# Altium integrated library TI Amplifiers and Linear Special Function Amplifier.IntLib: 708 symbols (part 31 of 47)
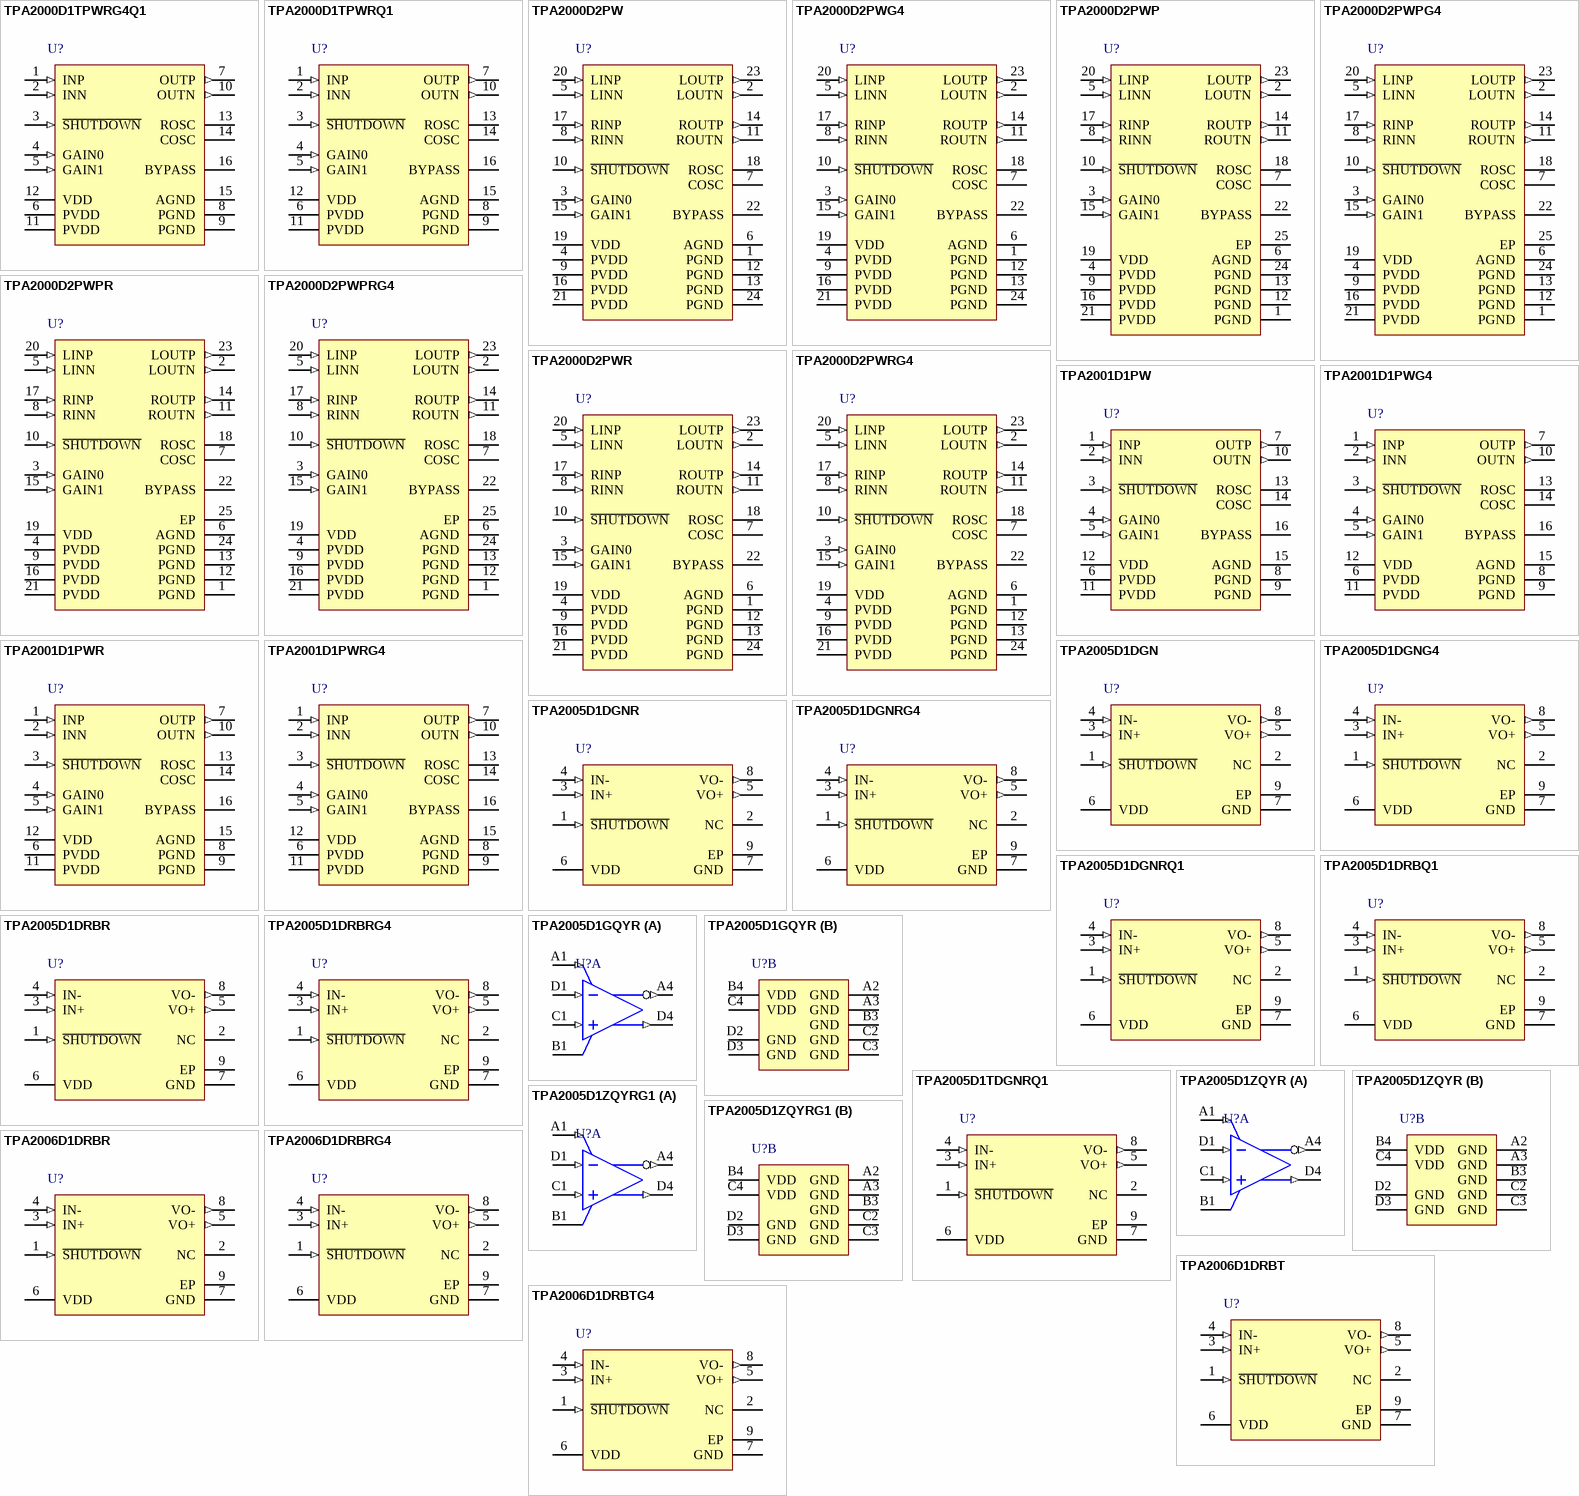
[diagram p69: symbols TPA2000D1TPWRG4Q1 to TPA2006D1DRBTG4]

## TPA2000D2PWR
designator U?
2-W Stereo Class-D Audio Amplifier, -40 to 85 degC, 24-pin SOP (PW24), Green (RoHS & no Sb/Br); Manufacturer: Texas Instruments; PartNumber: TPA2000D2PWR; Output Power(W): 2; PSRR(dB): 77; SubFamily: Dynamic Speaker; Supply Max(Max)(Volt): 5.5; Supply Min(Min)(Volt): 4.5; DatasheetVersion: SLOS291F; PackageVersion: 4040064-6/G, 02/2011; PackageReference: PW24; PackageDescription: 24-Pin Plastic Small Outline, Body 7.8 x 4.4 mm, Pitch 0.65 mm; Supplier 1: Digi-Key; Supplier Part Number 1: 296-13382-2-ND; Supplier 2: Digi-Key; Supplier Part Number 2: 296-13382-1-ND; Supplier 3: Digi-Key; Supplier Part Number 3: 296-13382-6-ND; Supplier 4: Mouser; Supplier Part Number 4: 595-TPA2000D2PWR; Eco-Plan: Green (RoHS & no Sb/Br); Speaker Amp Type: Class-D; Speaker Channels: Stereo; Mounting Technology: Surface Mount; Code_JEDEC: MO-153; ComponentLink1Description: Manufacturer URL; ComponentLink1URL: http://www.ti.com/; ComponentLink2Description: Datasheet; ComponentLink2URL: http://www.ti.com/general/docs/lit/getliterature.tsp?genericPartNumber=TPA2000D2&fileType=pdf; ComponentLink3Description: Package Specification; ComponentLink3URL: http://www.ti.com/litv/pdf/mpds363
footprint TI-PW24_N (SOP, 24-Leads, Body 7.8x4.4mm, Pitch 0.65mm, IPC Medium Density)
footprint TI-PW24_L (SOP, 24-Leads, Body 7.8x4.4mm, Pitch 0.65mm, IPC High Density)
footprint TI-PW24_M (SOP, 24-Leads, Body 7.8x4.4mm, Pitch 0.65mm, IPC Low Density)
pins: 1 PGND (power) "Power ground for left channel H-bridge", 2 LOUTN (out) "Left channel negative audio output", 3 GAIN0 (in) "Bit 0 of gain control (TTL logic level)", 4 PVDD (power) "Power supply for left channel H-bridge", 5 LINN (in) "Left channel negative differential audio input", 6 AGND (power) "Analog ground", 7 COSC "A capacitor connected to this terminal sets the oscillation frequency in conjunction with ROSC. For proper operation, connect a 220 pF capacitor from COSC to ground.", 8 RINN (in) "Right channel negative differential audio input", 9 PVDD (power) "Power supply for right channel H-bridge", 10 ~{SHUTDOWN} (in) "Places the amplifier in shutdown mode if a TTL logic low is placed on this terminal; normal operation if a TTL logic high is placed on this terminal.", 11 ROUTN (out) "Right channel negative audio output", 12 PGND (power) "Power ground for right channel H-bridge", 13 PGND (power) "Power ground for right channel H-bridge", 14 ROUTP (out) "Right channel positive output", 15 GAIN1 (in) "Bit 1 of gain control (TTL logic level)", 16 PVDD (power) "Power supply for right channel H-bridge", 17 RINP (in) "Right channel positive differential audio input", 18 ROSC "A resistor connected to this terminal sets the oscillation frequency in conjunction with COSC. For proper operation, connect a 120 k ohm resistor from ROSC to ground.", 19 VDD (power) "Analog power supply", 20 LINP (in) "Left channel positive differential audio input", 21 PVDD (power) "Power supply for left channel H-bridge", 22 BYPASS "Tap to voltage divider for internal midsupply bias generator used for analog reference.", 23 LOUTP (out) "Left channel positive audio output", 24 PGND (power) "Power ground for left channel H-bridge"

## TPA2000D2PWRG4
designator U?
2-W Stereo Class-D Audio Amplifier, -40 to 85 degC, 24-pin SOP (PW24), Green (RoHS & no Sb/Br); Manufacturer: Texas Instruments; PartNumber: TPA2000D2PWRG4; Output Power(W): 2; PSRR(dB): 77; SubFamily: Dynamic Speaker; Supply Max(Max)(Volt): 5.5; Supply Min(Min)(Volt): 4.5; DatasheetVersion: SLOS291F; PackageVersion: 4040064-6/G, 02/2011; PackageReference: PW24; PackageDescription: 24-Pin Plastic Small Outline, Body 7.8 x 4.4 mm, Pitch 0.65 mm; Supplier 1: Digi-Key; Supplier Part Number 1: TPA2000D2PWRG4-ND; Supplier 2: Mouser; Supplier Part Number 2: 595-TPA2000D2PWRG4; Eco-Plan: Green (RoHS & no Sb/Br); Speaker Amp Type: Class-D; Speaker Channels: Stereo; Mounting Technology: Surface Mount; Code_JEDEC: MO-153; ComponentLink1Description: Manufacturer URL; ComponentLink1URL: http://www.ti.com/; ComponentLink2Description: Datasheet; ComponentLink2URL: http://www.ti.com/general/docs/lit/getliterature.tsp?genericPartNumber=TPA2000D2&fileType=pdf; ComponentLink3Description: Package Specification; ComponentLink3URL: http://www.ti.com/litv/pdf/mpds363
footprint TI-PW24_N (SOP, 24-Leads, Body 7.8x4.4mm, Pitch 0.65mm, IPC Medium Density)
footprint TI-PW24_L (SOP, 24-Leads, Body 7.8x4.4mm, Pitch 0.65mm, IPC High Density)
footprint TI-PW24_M (SOP, 24-Leads, Body 7.8x4.4mm, Pitch 0.65mm, IPC Low Density)
pins: 1 PGND (power) "Power ground for left channel H-bridge", 2 LOUTN (out) "Left channel negative audio output", 3 GAIN0 (in) "Bit 0 of gain control (TTL logic level)", 4 PVDD (power) "Power supply for left channel H-bridge", 5 LINN (in) "Left channel negative differential audio input", 6 AGND (power) "Analog ground", 7 COSC "A capacitor connected to this terminal sets the oscillation frequency in conjunction with ROSC. For proper operation, connect a 220 pF capacitor from COSC to ground.", 8 RINN (in) "Right channel negative differential audio input", 9 PVDD (power) "Power supply for right channel H-bridge", 10 ~{SHUTDOWN} (in) "Places the amplifier in shutdown mode if a TTL logic low is placed on this terminal; normal operation if a TTL logic high is placed on this terminal.", 11 ROUTN (out) "Right channel negative audio output", 12 PGND (power) "Power ground for right channel H-bridge", 13 PGND (power) "Power ground for right channel H-bridge", 14 ROUTP (out) "Right channel positive output", 15 GAIN1 (in) "Bit 1 of gain control (TTL logic level)", 16 PVDD (power) "Power supply for right channel H-bridge", 17 RINP (in) "Right channel positive differential audio input", 18 ROSC "A resistor connected to this terminal sets the oscillation frequency in conjunction with COSC. For proper operation, connect a 120 k ohm resistor from ROSC to ground.", 19 VDD (power) "Analog power supply", 20 LINP (in) "Left channel positive differential audio input", 21 PVDD (power) "Power supply for left channel H-bridge", 22 BYPASS "Tap to voltage divider for internal midsupply bias generator used for analog reference.", 23 LOUTP (out) "Left channel positive audio output", 24 PGND (power) "Power ground for left channel H-bridge"

## TPA2001D1PW
designator U?
1-W Mono Class-D Audio Amplifier, -40 to 85 degC, 16-pin SOP (PW16), Green (RoHS & no Sb/Br); Manufacturer: Texas Instruments; PartNumber: TPA2001D1PW; Output Power(W): 1; PSRR(dB): 77; SubFamily: Dynamic Speaker; Supply Max(Max)(Volt): 5.5; Supply Min(Min)(Volt): 2.7; DatasheetVersion: SLOS338D; PackageVersion: 4040064-4/G, 02/2011; PackageReference: PW16; PackageDescription: 16-Pin Plastic Small Outline, Body 5 x 4.4 mm, Pitch 0.65 mm; Supplier 1: Digi-Key; Supplier Part Number 1: 296-7010-5-ND; Supplier 2: Newark; Supplier Part Number 2: 76C9788; Supplier 3: Mouser; Supplier Part Number 3: 595-TPA2001D1PW; Eco-Plan: Green (RoHS & no Sb/Br); Speaker Amp Type: Class-D; Speaker Channels: Mono; Mounting Technology: Surface Mount; Code_JEDEC: MO-153; ComponentLink1Description: Manufacturer URL; ComponentLink1URL: http://www.ti.com/; ComponentLink2Description: Datasheet; ComponentLink2URL: http://www.ti.com/general/docs/lit/getliterature.tsp?genericPartNumber=TPA2001D1&fileType=pdf; ComponentLink3Description: Package Specification; ComponentLink3URL: http://www.ti.com/lit/ml/mpds361/mpds361.pdf
footprint TI-PW16_N (SOP, 16-Leads, Body 5.1x4.5mm, Pitch 0.65mm, IPC Medium Density)
footprint TI-PW16_L (SOP, 16-Leads, Body 5.1x4.5mm, Pitch 0.65mm, IPC High Density)
footprint TI-PW16_M (SOP, 16-Leads, Body 5.1x4.5mm, Pitch 0.65mm, IPC Low Density)
pins: 1 INP (in) "Positive differential input", 2 INN (in) "Negative differential input", 3 ~{SHUTDOWN} (in) "Places the amplifier in shutdown mode if a TTL logic low is placed on this terminal, and normal operation if a TTL logic high is placed on this terminal.", 4 GAIN0 (in) "Bit 0 of gain control (TTL logic level)", 5 GAIN1 (in) "Bit 1 of gain control (TTL logic level)", 6 PVDD (power) "High-current power supplies", 7 OUTP (out) "Positive BTL output", 8 PGND (power) "High-current grounds", 9 PGND (power) "High-current grounds", 10 OUTN (out) "Negative BTL output", 11 PVDD (power) "High-current power supplies", 12 VDD (power) "Analog power supply", 13 ROSC "Connect resistor to ground to set oscillation frequency.", 14 COSC "Connect capacitor to ground to set oscillation frequency.", 15 AGND (power) "Analog ground", 16 BYPASS "Connect capacitor to ground for BYPASS voltage filtering."

## TPA2001D1PWG4
designator U?
1-W Mono Class-D Audio Amplifier, -40 to 85 degC, 16-pin SOP (PW16), Green (RoHS & no Sb/Br); Manufacturer: Texas Instruments; PartNumber: TPA2001D1PWG4; Output Power(W): 1; PSRR(dB): 77; SubFamily: Dynamic Speaker; Supply Max(Max)(Volt): 5.5; Supply Min(Min)(Volt): 2.7; DatasheetVersion: SLOS338D; PackageVersion: 4040064-4/G, 02/2011; PackageReference: PW16; PackageDescription: 16-Pin Plastic Small Outline, Body 5 x 4.4 mm, Pitch 0.65 mm; Supplier 1: Digi-Key; Supplier Part Number 1: TPA2001D1PWG4-ND; Supplier 2: Mouser; Supplier Part Number 2: 595-TPA2001D1PWG4; Eco-Plan: Green (RoHS & no Sb/Br); Speaker Amp Type: Class-D; Speaker Channels: Mono; Mounting Technology: Surface Mount; Code_JEDEC: MO-153; ComponentLink1Description: Manufacturer URL; ComponentLink1URL: http://www.ti.com/; ComponentLink2Description: Datasheet; ComponentLink2URL: http://www.ti.com/general/docs/lit/getliterature.tsp?genericPartNumber=TPA2001D1&fileType=pdf; ComponentLink3Description: Package Specification; ComponentLink3URL: http://www.ti.com/lit/ml/mpds361/mpds361.pdf
footprint TI-PW16_N (SOP, 16-Leads, Body 5.1x4.5mm, Pitch 0.65mm, IPC Medium Density)
footprint TI-PW16_L (SOP, 16-Leads, Body 5.1x4.5mm, Pitch 0.65mm, IPC High Density)
footprint TI-PW16_M (SOP, 16-Leads, Body 5.1x4.5mm, Pitch 0.65mm, IPC Low Density)
pins: 1 INP (in) "Positive differential input", 2 INN (in) "Negative differential input", 3 ~{SHUTDOWN} (in) "Places the amplifier in shutdown mode if a TTL logic low is placed on this terminal, and normal operation if a TTL logic high is placed on this terminal.", 4 GAIN0 (in) "Bit 0 of gain control (TTL logic level)", 5 GAIN1 (in) "Bit 1 of gain control (TTL logic level)", 6 PVDD (power) "High-current power supplies", 7 OUTP (out) "Positive BTL output", 8 PGND (power) "High-current grounds", 9 PGND (power) "High-current grounds", 10 OUTN (out) "Negative BTL output", 11 PVDD (power) "High-current power supplies", 12 VDD (power) "Analog power supply", 13 ROSC "Connect resistor to ground to set oscillation frequency.", 14 COSC "Connect capacitor to ground to set oscillation frequency.", 15 AGND (power) "Analog ground", 16 BYPASS "Connect capacitor to ground for BYPASS voltage filtering."

## TPA2001D1PWR
designator U?
1-W Mono Class-D Audio Amplifier, -40 to 85 degC, 16-pin SOP (PW16), Green (RoHS & no Sb/Br); Manufacturer: Texas Instruments; PartNumber: TPA2001D1PWR; Output Power(W): 1; PSRR(dB): 77; SubFamily: Dynamic Speaker; Supply Max(Max)(Volt): 5.5; Supply Min(Min)(Volt): 2.7; DatasheetVersion: SLOS338D; PackageVersion: 4040064-4/G, 02/2011; PackageReference: PW16; PackageDescription: 16-Pin Plastic Small Outline, Body 5 x 4.4 mm, Pitch 0.65 mm; Supplier 1: Digi-Key; Supplier Part Number 1: TPA2001D1PWR-ND; Supplier 2: Mouser; Supplier Part Number 2: 595-TPA2001D1PWR; Eco-Plan: Green (RoHS & no Sb/Br); Speaker Amp Type: Class-D; Speaker Channels: Mono; Mounting Technology: Surface Mount; Code_JEDEC: MO-153; ComponentLink1Description: Manufacturer URL; ComponentLink1URL: http://www.ti.com/; ComponentLink2Description: Datasheet; ComponentLink2URL: http://www.ti.com/general/docs/lit/getliterature.tsp?genericPartNumber=TPA2001D1&fileType=pdf; ComponentLink3Description: Package Specification; ComponentLink3URL: http://www.ti.com/lit/ml/mpds361/mpds361.pdf
footprint TI-PW16_N (SOP, 16-Leads, Body 5.1x4.5mm, Pitch 0.65mm, IPC Medium Density)
footprint TI-PW16_L (SOP, 16-Leads, Body 5.1x4.5mm, Pitch 0.65mm, IPC High Density)
footprint TI-PW16_M (SOP, 16-Leads, Body 5.1x4.5mm, Pitch 0.65mm, IPC Low Density)
pins: 1 INP (in) "Positive differential input", 2 INN (in) "Negative differential input", 3 ~{SHUTDOWN} (in) "Places the amplifier in shutdown mode if a TTL logic low is placed on this terminal, and normal operation if a TTL logic high is placed on this terminal.", 4 GAIN0 (in) "Bit 0 of gain control (TTL logic level)", 5 GAIN1 (in) "Bit 1 of gain control (TTL logic level)", 6 PVDD (power) "High-current power supplies", 7 OUTP (out) "Positive BTL output", 8 PGND (power) "High-current grounds", 9 PGND (power) "High-current grounds", 10 OUTN (out) "Negative BTL output", 11 PVDD (power) "High-current power supplies", 12 VDD (power) "Analog power supply", 13 ROSC "Connect resistor to ground to set oscillation frequency.", 14 COSC "Connect capacitor to ground to set oscillation frequency.", 15 AGND (power) "Analog ground", 16 BYPASS "Connect capacitor to ground for BYPASS voltage filtering."

## TPA2001D1PWRG4
designator U?
1-W Mono Class-D Audio Amplifier, -40 to 85 degC, 16-pin SOP (PW16), Green (RoHS & no Sb/Br); Manufacturer: Texas Instruments; PartNumber: TPA2001D1PWRG4; Output Power(W): 1; PSRR(dB): 77; SubFamily: Dynamic Speaker; Supply Max(Max)(Volt): 5.5; Supply Min(Min)(Volt): 2.7; DatasheetVersion: SLOS338D; PackageVersion: 4040064-4/G, 02/2011; PackageReference: PW16; PackageDescription: 16-Pin Plastic Small Outline, Body 5 x 4.4 mm, Pitch 0.65 mm; Supplier 1: Digi-Key; Supplier Part Number 1: TPA2001D1PWRG4-ND; Supplier 2: Mouser; Supplier Part Number 2: 595-TPA2001D1PWRG4; Eco-Plan: Green (RoHS & no Sb/Br); Speaker Amp Type: Class-D; Speaker Channels: Mono; Mounting Technology: Surface Mount; Code_JEDEC: MO-153; ComponentLink1Description: Manufacturer URL; ComponentLink1URL: http://www.ti.com/; ComponentLink2Description: Datasheet; ComponentLink2URL: http://www.ti.com/general/docs/lit/getliterature.tsp?genericPartNumber=TPA2001D1&fileType=pdf; ComponentLink3Description: Package Specification; ComponentLink3URL: http://www.ti.com/lit/ml/mpds361/mpds361.pdf
footprint TI-PW16_N (SOP, 16-Leads, Body 5.1x4.5mm, Pitch 0.65mm, IPC Medium Density)
footprint TI-PW16_L (SOP, 16-Leads, Body 5.1x4.5mm, Pitch 0.65mm, IPC High Density)
footprint TI-PW16_M (SOP, 16-Leads, Body 5.1x4.5mm, Pitch 0.65mm, IPC Low Density)
pins: 1 INP (in) "Positive differential input", 2 INN (in) "Negative differential input", 3 ~{SHUTDOWN} (in) "Places the amplifier in shutdown mode if a TTL logic low is placed on this terminal, and normal operation if a TTL logic high is placed on this terminal.", 4 GAIN0 (in) "Bit 0 of gain control (TTL logic level)", 5 GAIN1 (in) "Bit 1 of gain control (TTL logic level)", 6 PVDD (power) "High-current power supplies", 7 OUTP (out) "Positive BTL output", 8 PGND (power) "High-current grounds", 9 PGND (power) "High-current grounds", 10 OUTN (out) "Negative BTL output", 11 PVDD (power) "High-current power supplies", 12 VDD (power) "Analog power supply", 13 ROSC "Connect resistor to ground to set oscillation frequency.", 14 COSC "Connect capacitor to ground to set oscillation frequency.", 15 AGND (power) "Analog ground", 16 BYPASS "Connect capacitor to ground for BYPASS voltage filtering."

## TPA2005D1DGN
designator U?
1.4-W Mono Class-D Audio Amplifier, -40 to 85 degC, 8-pin SOP (DGN8), Green (RoHS & no Sb/Br); Manufacturer: Texas Instruments; PartNumber: TPA2005D1DGN; Output Power(W): 1.18; PSRR(dB): -75; SubFamily: Dynamic Speaker; Supply Max(Max)(Volt): 5.5; Supply Min(Min)(Volt): 2.5; DatasheetVersion: SLOS369F; PackageVersion: 4073271/F, 05/2011; PackageReference: DGN8-1760X1425TP; PackageDescription: 8-Pin Plastic Small Outline, Body 3 x 3 mm, Pitch 0.65 mm; Supplier 1: Digi-Key; Supplier Part Number 1: 296-17691-5-ND; Supplier 2: Farnell; Supplier Part Number 2: 2075395; Supplier 3: Newark; Supplier Part Number 3: 82T3159; Supplier 4: Newark; Supplier Part Number 4: 73J8370; Supplier 5: Mouser; Supplier Part Number 5: 595-TPA2005D1DGN; Eco-Plan: Green (RoHS & no Sb/Br); Speaker Amp Type: Class-D; Speaker Channels: Mono; Mounting Technology: Surface Mount; Code_JEDEC: MO-187; ComponentLink1Description: Manufacturer URL; ComponentLink1URL: http://www.ti.com/; ComponentLink2Description: Datasheet; ComponentLink2URL: http://www.ti.com/general/docs/lit/getliterature.tsp?genericPartNumber=TPA2005D1&fileType=pdf; ComponentLink3Description: Package Specification; ComponentLink3URL: http://www.ti.com/litv/pdf/mpds046e
footprint TI-DGN8-1760X1425TP_N (SOP, 8-Leads, Body 3.1x3.1mm, Pitch 0.65mm, Thermal Pad 1.89x1.57mm, IPC Medium Density)
footprint TI-DGN8-1760X1425TP_L (SOP, 8-Leads, Body 3.1x3.1mm, Pitch 0.65mm, Thermal Pad 1.89x1.57mm, IPC High Density)
footprint TI-DGN8-1760X1425TP_M (SOP, 8-Leads, Body 3.1x3.1mm, Pitch 0.65mm, Thermal Pad 1.89x1.57mm, IPC Low Density)
pins: 1 ~{SHUTDOWN} (in) "Shutdown terminal (active low logic)", 2 NC "No internal connection", 3 IN+ (in) "Positive differential input", 4 IN- (in) "Negative differential input", 5 VO+ (out) "Positive BTL output", 6 VDD (power) "Power supply", 7 GND (power) "High-current ground", 8 VO- (out) "Negative BTL output", 9 EP (power) "Must be soldered to a grounded pad on the PCB."

## TPA2005D1DGNG4
designator U?
1.4-W Mono Class-D Audio Amplifier, -40 to 85 degC, 8-pin SOP (DGN8), Green (RoHS & no Sb/Br); Manufacturer: Texas Instruments; PartNumber: TPA2005D1DGNG4; Output Power(W): 1.18; PSRR(dB): -75; SubFamily: Dynamic Speaker; Supply Max(Max)(Volt): 5.5; Supply Min(Min)(Volt): 2.5; DatasheetVersion: SLOS369F; PackageVersion: 4073271/F, 05/2011; PackageReference: DGN8-1760X1425TP; PackageDescription: 8-Pin Plastic Small Outline, Body 3 x 3 mm, Pitch 0.65 mm; Supplier 1: Digi-Key; Supplier Part Number 1: TPA2005D1DGNG4-ND; Supplier 2: Mouser; Supplier Part Number 2: 595-TPA2005D1DGNG4; Eco-Plan: Green (RoHS & no Sb/Br); Speaker Amp Type: Class-D; Speaker Channels: Mono; Mounting Technology: Surface Mount; Code_JEDEC: MO-187; ComponentLink1Description: Manufacturer URL; ComponentLink1URL: http://www.ti.com/; ComponentLink2Description: Datasheet; ComponentLink2URL: http://www.ti.com/general/docs/lit/getliterature.tsp?genericPartNumber=TPA2005D1&fileType=pdf; ComponentLink3Description: Package Specification; ComponentLink3URL: http://www.ti.com/litv/pdf/mpds046e
footprint TI-DGN8-1760X1425TP_N (SOP, 8-Leads, Body 3.1x3.1mm, Pitch 0.65mm, Thermal Pad 1.89x1.57mm, IPC Medium Density)
footprint TI-DGN8-1760X1425TP_L (SOP, 8-Leads, Body 3.1x3.1mm, Pitch 0.65mm, Thermal Pad 1.89x1.57mm, IPC High Density)
footprint TI-DGN8-1760X1425TP_M (SOP, 8-Leads, Body 3.1x3.1mm, Pitch 0.65mm, Thermal Pad 1.89x1.57mm, IPC Low Density)
pins: 1 ~{SHUTDOWN} (in) "Shutdown terminal (active low logic)", 2 NC "No internal connection", 3 IN+ (in) "Positive differential input", 4 IN- (in) "Negative differential input", 5 VO+ (out) "Positive BTL output", 6 VDD (power) "Power supply", 7 GND (power) "High-current ground", 8 VO- (out) "Negative BTL output", 9 EP (power) "Must be soldered to a grounded pad on the PCB."

## TPA2005D1DGNR
designator U?
1.4-W Mono Class-D Audio Amplifier, -40 to 85 degC, 8-pin SOP (DGN8), Green (RoHS & no Sb/Br); Manufacturer: Texas Instruments; PartNumber: TPA2005D1DGNR; Output Power(W): 1.18; PSRR(dB): -75; SubFamily: Dynamic Speaker; Supply Max(Max)(Volt): 5.5; Supply Min(Min)(Volt): 2.5; DatasheetVersion: SLOS369F; PackageVersion: 4073271/F, 05/2011; PackageReference: DGN8-1760X1425TP; PackageDescription: 8-Pin Plastic Small Outline, Body 3 x 3 mm, Pitch 0.65 mm; Supplier 1: Digi-Key; Supplier Part Number 1: 296-26876-2-ND; Supplier 2: Digi-Key; Supplier Part Number 2: 296-26876-1-ND; Supplier 3: Digi-Key; Supplier Part Number 3: 296-26876-6-ND; Supplier 4: Newark; Supplier Part Number 4: 73J8371; Supplier 5: Mouser; Supplier Part Number 5: 595-TPA2005D1DGNR; Eco-Plan: Green (RoHS & no Sb/Br); Speaker Amp Type: Class-D; Speaker Channels: Mono; Mounting Technology: Surface Mount; Code_JEDEC: MO-187; ComponentLink1Description: Manufacturer URL; ComponentLink1URL: http://www.ti.com/; ComponentLink2Description: Datasheet; ComponentLink2URL: http://www.ti.com/general/docs/lit/getliterature.tsp?genericPartNumber=TPA2005D1&fileType=pdf; ComponentLink3Description: Package Specification; ComponentLink3URL: http://www.ti.com/litv/pdf/mpds046e
footprint TI-DGN8-1760X1425TP_N (SOP, 8-Leads, Body 3.1x3.1mm, Pitch 0.65mm, Thermal Pad 1.89x1.57mm, IPC Medium Density)
footprint TI-DGN8-1760X1425TP_L (SOP, 8-Leads, Body 3.1x3.1mm, Pitch 0.65mm, Thermal Pad 1.89x1.57mm, IPC High Density)
footprint TI-DGN8-1760X1425TP_M (SOP, 8-Leads, Body 3.1x3.1mm, Pitch 0.65mm, Thermal Pad 1.89x1.57mm, IPC Low Density)
pins: 1 ~{SHUTDOWN} (in) "Shutdown terminal (active low logic)", 2 NC "No internal connection", 3 IN+ (in) "Positive differential input", 4 IN- (in) "Negative differential input", 5 VO+ (out) "Positive BTL output", 6 VDD (power) "Power supply", 7 GND (power) "High-current ground", 8 VO- (out) "Negative BTL output", 9 EP (power) "Must be soldered to a grounded pad on the PCB."

## TPA2005D1DGNRG4
designator U?
1.4-W Mono Class-D Audio Amplifier, -40 to 85 degC, 8-pin SOP (DGN8), Green (RoHS & no Sb/Br); Manufacturer: Texas Instruments; PartNumber: TPA2005D1DGNRG4; Output Power(W): 1.18; PSRR(dB): -75; SubFamily: Dynamic Speaker; Supply Max(Max)(Volt): 5.5; Supply Min(Min)(Volt): 2.5; DatasheetVersion: SLOS369F; PackageVersion: 4073271/F, 05/2011; PackageReference: DGN8-1760X1425TP; PackageDescription: 8-Pin Plastic Small Outline, Body 3 x 3 mm, Pitch 0.65 mm; Supplier 1: Digi-Key; Supplier Part Number 1: TPA2005D1DGNRG4-ND; Supplier 2: Mouser; Supplier Part Number 2: 595-TPA2005D1DGNRG4; Eco-Plan: Green (RoHS & no Sb/Br); Speaker Amp Type: Class-D; Speaker Channels: Mono; Mounting Technology: Surface Mount; Code_JEDEC: MO-187; ComponentLink1Description: Manufacturer URL; ComponentLink1URL: http://www.ti.com/; ComponentLink2Description: Datasheet; ComponentLink2URL: http://www.ti.com/general/docs/lit/getliterature.tsp?genericPartNumber=TPA2005D1&fileType=pdf; ComponentLink3Description: Package Specification; ComponentLink3URL: http://www.ti.com/litv/pdf/mpds046e
footprint TI-DGN8-1760X1425TP_N (SOP, 8-Leads, Body 3.1x3.1mm, Pitch 0.65mm, Thermal Pad 1.89x1.57mm, IPC Medium Density)
footprint TI-DGN8-1760X1425TP_L (SOP, 8-Leads, Body 3.1x3.1mm, Pitch 0.65mm, Thermal Pad 1.89x1.57mm, IPC High Density)
footprint TI-DGN8-1760X1425TP_M (SOP, 8-Leads, Body 3.1x3.1mm, Pitch 0.65mm, Thermal Pad 1.89x1.57mm, IPC Low Density)
pins: 1 ~{SHUTDOWN} (in) "Shutdown terminal (active low logic)", 2 NC "No internal connection", 3 IN+ (in) "Positive differential input", 4 IN- (in) "Negative differential input", 5 VO+ (out) "Positive BTL output", 6 VDD (power) "Power supply", 7 GND (power) "High-current ground", 8 VO- (out) "Negative BTL output", 9 EP (power) "Must be soldered to a grounded pad on the PCB."

## TPA2005D1DGNRQ1
designator U?
Automotive Catalog 1.4-W Mono Filter-Free Class-D Audio Power Amplifier, -40 to 85 degC, 8-pin SOP (DGN8), Green (RoHS & no Sb/Br); Manufacturer: Texas Instruments; PartNumber: TPA2005D1DGNRQ1; Output Power(W): 1.18; PSRR(dB): -75; SubFamily: Dynamic Speaker; Supply Max(Max)(Volt): 5.5; Supply Min(Min)(Volt): 2.5; DatasheetVersion: SLOS474C; PackageVersion: 4073271/F, 05/2011; PackageReference: DGN8-1880X1750TP; PackageDescription: 8-Pin Plastic Small Outline, Body 3 x 3 mm, Pitch 0.65 mm; Supplier 1: Digi-Key; Supplier Part Number 1: 296-24831-2-ND; Supplier 2: Digi-Key; Supplier Part Number 2: 296-24831-1-ND; Supplier 3: Digi-Key; Supplier Part Number 3: 296-24831-6-ND; Supplier 4: Mouser; Supplier Part Number 4: 595-TPA2005D1DGNRQ1; Eco-Plan: Green (RoHS & no Sb/Br); Speaker Amp Type: Class-D; Speaker Channels: Mono; Mounting Technology: Surface Mount; Code_JEDEC: MO-187; ComponentLink1Description: Manufacturer URL; ComponentLink1URL: http://www.ti.com/; ComponentLink2Description: Datasheet; ComponentLink2URL: http://www.ti.com/general/docs/lit/getliterature.tsp?genericPartNumber=TPA2005D1-Q1&fileType=pdf; ComponentLink3Description: Package Specification; ComponentLink3URL: http://www.ti.com/litv/pdf/mpds046e
footprint TI-DGN8-1880X1750TP_N (SOP, 8-Leads, Body 3.1x3.1mm, Pitch 0.65mm, Thermal Pad 1.88x1.98mm, IPC Medium Density)
footprint TI-DGN8-1880X1750TP_L (SOP, 8-Leads, Body 3.1x3.1mm, Pitch 0.65mm, Thermal Pad 1.88x1.98mm, IPC High Density)
footprint TI-DGN8-1880X1750TP_M (SOP, 8-Leads, Body 3.1x3.1mm, Pitch 0.65mm, Thermal Pad 1.88x1.98mm, IPC Low Density)
pins: 1 ~{SHUTDOWN} (in) "Shutdown terminal (active low logic)", 2 NC "No internal connection", 3 IN+ (in) "Positive differential input", 4 IN- (in) "Negative differential input", 5 VO+ (out) "Positive BTL output", 6 VDD (power) "Power supply", 7 GND (power) "High-current ground", 8 VO- (out) "Negative BTL output", 9 EP (power) "Must be soldered to a grounded pad on the PCB."

## TPA2005D1DRBQ1
designator U?
Automotive Catalog 1.4-W Mono Filter-Free Class-D Audio Power Amplifier, -40 to 85 degC, 8-pin SON (DRB8), Green (RoHS & no Sb/Br); Manufacturer: Texas Instruments; PartNumber: TPA2005D1DRBQ1; Output Power(W): 1.18; PSRR(dB): -75; SubFamily: Dynamic Speaker; Supply Max(Max)(Volt): 5.5; Supply Min(Min)(Volt): 2.5; DatasheetVersion: SLOS474C; PackageVersion: 4203482-2/K, 06/2012; PackageReference: DRB8-1750X1500TP; PackageDescription: 8-Pin Plastic Small Outline, Body 3 x 3 mm, Pitch 0.65 mm; Supplier 1: Digi-Key; Supplier Part Number 1: TPA2005D1DRBQ1-ND; Supplier 2: Mouser; Supplier Part Number 2: 595-TPA2005D1DRBQ1; Eco-Plan: Green (RoHS & no Sb/Br); Speaker Amp Type: Class-D; Speaker Channels: Mono; Mounting Technology: Surface Mount; ComponentLink1Description: Manufacturer URL; ComponentLink1URL: http://www.ti.com/; ComponentLink2Description: Datasheet; ComponentLink2URL: http://www.ti.com/general/docs/lit/getliterature.tsp?genericPartNumber=TPA2005D1-Q1&fileType=pdf; ComponentLink3Description: Package Specification; ComponentLink3URL: http://www.ti.com/litv/pdf/mpds118h
footprint TI-DRB8-1750X1500TP_V (SON, 8-Leads, Body 3x3mm, Pitch 0.65mm, Thermal Pad 1.50 x 3.8mm)
pins: 1 ~{SHUTDOWN} (in) "Shutdown terminal (active low logic)", 2 NC "No internal connection", 3 IN+ (in) "Positive differential input", 4 IN- (in) "Negative differential input", 5 VO+ (out) "Positive BTL output", 6 VDD (power) "Power supply", 7 GND (power) "High-current ground", 8 VO- (out) "Negative BTL output", 9 EP (power) "Must be soldered to a grounded pad on the PCB."

## TPA2005D1DRBR
designator U?
1.4-W Mono Class-D Audio Amplifier, -40 to 85 degC, 8-pin SON (DRB8), Green (RoHS & no Sb/Br); Manufacturer: Texas Instruments; PartNumber: TPA2005D1DRBR; Output Power(W): 1.18; PSRR(dB): -75; SubFamily: Dynamic Speaker; Supply Max(Max)(Volt): 5.5; Supply Min(Min)(Volt): 2.5; DatasheetVersion: SLOS369F; PackageVersion: 4203482-2/K, 06/2012; PackageReference: DRB8-1750X1500TP; PackageDescription: 8-Pin Plastic Small Outline, Body 3 x 3 mm, Pitch 0.65 mm; Supplier 1: Digi-Key; Supplier Part Number 1: 296-15131-2-ND; Supplier 2: Digi-Key; Supplier Part Number 2: 296-15131-1-ND; Supplier 3: Digi-Key; Supplier Part Number 3: 296-15131-6-ND; Supplier 4: Newark; Supplier Part Number 4: 36K7655; Supplier 5: Mouser; Supplier Part Number 5: 595-TPA2005D1DRBR; Eco-Plan: Green (RoHS & no Sb/Br); Speaker Amp Type: Class-D; Speaker Channels: Mono; Mounting Technology: Surface Mount; ComponentLink1Description: Manufacturer URL; ComponentLink1URL: http://www.ti.com/; ComponentLink2Description: Datasheet; ComponentLink2URL: http://www.ti.com/general/docs/lit/getliterature.tsp?genericPartNumber=TPA2005D1&fileType=pdf; ComponentLink3Description: Package Specification; ComponentLink3URL: http://www.ti.com/litv/pdf/mpds118h
footprint TI-DRB8-1750X1500TP_V (SON, 8-Leads, Body 3x3mm, Pitch 0.65mm, Thermal Pad 1.50 x 3.8mm)
pins: 1 ~{SHUTDOWN} (in) "Shutdown terminal (active low logic)", 2 NC "No internal connection", 3 IN+ (in) "Positive differential input", 4 IN- (in) "Negative differential input", 5 VO+ (out) "Positive BTL output", 6 VDD (power) "Power supply", 7 GND (power) "High-current ground", 8 VO- (out) "Negative BTL output", 9 EP (power) "Must be soldered to a grounded pad on the PCB."

## TPA2005D1DRBRG4
designator U?
1.4-W Mono Class-D Audio Amplifier, -40 to 85 degC, 8-pin SON (DRB8), Green (RoHS & no Sb/Br); Manufacturer: Texas Instruments; PartNumber: TPA2005D1DRBRG4; Output Power(W): 1.18; PSRR(dB): -75; SubFamily: Dynamic Speaker; Supply Max(Max)(Volt): 5.5; Supply Min(Min)(Volt): 2.5; DatasheetVersion: SLOS369F; PackageVersion: 4203482-2/K, 06/2012; PackageReference: DRB8-1750X1500TP; PackageDescription: 8-Pin Plastic Small Outline, Body 3 x 3 mm, Pitch 0.65 mm; Supplier 1: Digi-Key; Supplier Part Number 1: TPA2005D1DRBRG4-ND; Supplier 2: Mouser; Supplier Part Number 2: 595-TPA2005D1DRBRG4; Eco-Plan: Green (RoHS & no Sb/Br); Speaker Amp Type: Class-D; Speaker Channels: Mono; Mounting Technology: Surface Mount; ComponentLink1Description: Manufacturer URL; ComponentLink1URL: http://www.ti.com/; ComponentLink2Description: Datasheet; ComponentLink2URL: http://www.ti.com/general/docs/lit/getliterature.tsp?genericPartNumber=TPA2005D1&fileType=pdf; ComponentLink3Description: Package Specification; ComponentLink3URL: http://www.ti.com/litv/pdf/mpds118h
footprint TI-DRB8-1750X1500TP_V (SON, 8-Leads, Body 3x3mm, Pitch 0.65mm, Thermal Pad 1.50 x 3.8mm)
pins: 1 ~{SHUTDOWN} (in) "Shutdown terminal (active low logic)", 2 NC "No internal connection", 3 IN+ (in) "Positive differential input", 4 IN- (in) "Negative differential input", 5 VO+ (out) "Positive BTL output", 6 VDD (power) "Power supply", 7 GND (power) "High-current ground", 8 VO- (out) "Negative BTL output", 9 EP (power) "Must be soldered to a grounded pad on the PCB."

## TPA2005D1GQYR
designator U?
1.4-W Mono Class-D Audio Amplifier, -40 to 85 degC, 15-pin BGA (GQY15); Manufacturer: Texas Instruments; PartNumber: TPA2005D1GQYR; Output Power(W): 1.18; PSRR(dB): -75; SubFamily: Dynamic Speaker; Supply Max(Max)(Volt): 5.5; Supply Min(Min)(Volt): 2.5; DatasheetVersion: SLOS369F; PackageVersion: 4201436/D, 01/2002; PackageReference: GQY15; PackageDescription: 15-Ball Plastic Ball Grid Array, Body 2.5 x2.5 mm, Pitch 0.5 mm; Supplier 1: Digi-Key; Supplier Part Number 1: 296-15073-2-ND; Supplier 2: Digi-Key; Supplier Part Number 2: 296-15073-1-ND; Supplier 3: Mouser; Supplier Part Number 3: 595-TPA2005D1GQYR; Speaker Amp Type: Class-D; Speaker Channels: Mono; Mounting Technology: Surface Mount; Code_JEDEC: MO-225; ComponentLink1Description: Manufacturer URL; ComponentLink1URL: http://www.ti.com/; ComponentLink2Description: Datasheet; ComponentLink2URL: http://www.ti.com/general/docs/lit/getliterature.tsp?genericPartNumber=TPA2005D1&fileType=pdf; ComponentLink3Description: Package Specification; ComponentLink3URL: http://www.ti.com/litv/pdf/mpbg168b
footprint TI-GQY15 (BGA, 15-Balls, Body 2.5x2.5mm, Pitch 0.5mm)
part A pins: A1 ~{SHUTDOWN} (in) "Shutdown terminal (active low logic)", A4 VO- (out) "Negative BTL output", B1 NC "No internal connection", C1 IN+ (in) "Positive differential input", D1 IN- (in) "Negative differential input", D4 VO+ (out) "Positive BTL output"
part B pins: A2 GND (power) "High-current ground", A3 GND (power) "High-current ground", B3 GND (power) "High-current ground", B4 VDD (power) "Power supply", C2 GND (power) "High-current ground", C3 GND (power) "High-current ground", C4 VDD (power) "Power supply", D2 GND (power) "High-current ground", D3 GND (power) "High-current ground"

## TPA2005D1TDGNRQ1
designator U?
Automotive Catalog 1.4-W Mono Filter-Free Class-D Audio Power Amplifier, -40 to 105 degC, 8-pin SOP (DGN8), Green (RoHS & no Sb/Br); Manufacturer: Texas Instruments; PartNumber: TPA2005D1TDGNRQ1; Output Power(W): 1.18; PSRR(dB): -75; SubFamily: Dynamic Speaker; Supply Max(Max)(Volt): 5.5; Supply Min(Min)(Volt): 2.5; DatasheetVersion: SLOS474C; PackageVersion: 4073271/F, 05/2011; PackageReference: DGN8-1880X1750TP; PackageDescription: 8-Pin Plastic Small Outline, Body 3 x 3 mm, Pitch 0.65 mm; Supplier 1: Digi-Key; Supplier Part Number 1: TPA2005D1TDGNRQ1-ND; Supplier 2: Mouser; Supplier Part Number 2: 595-TPA2005D1TDGNRQ1; Eco-Plan: Green (RoHS & no Sb/Br); Speaker Amp Type: Class-D; Speaker Channels: Mono; Mounting Technology: Surface Mount; Code_JEDEC: MO-187; ComponentLink1Description: Manufacturer URL; ComponentLink1URL: http://www.ti.com/; ComponentLink2Description: Datasheet; ComponentLink2URL: http://www.ti.com/general/docs/lit/getliterature.tsp?genericPartNumber=TPA2005D1-Q1&fileType=pdf; ComponentLink3Description: Package Specification; ComponentLink3URL: http://www.ti.com/litv/pdf/mpds046e
footprint TI-DGN8-1880X1750TP_N (SOP, 8-Leads, Body 3.1x3.1mm, Pitch 0.65mm, Thermal Pad 1.88x1.98mm, IPC Medium Density)
footprint TI-DGN8-1880X1750TP_L (SOP, 8-Leads, Body 3.1x3.1mm, Pitch 0.65mm, Thermal Pad 1.88x1.98mm, IPC High Density)
footprint TI-DGN8-1880X1750TP_M (SOP, 8-Leads, Body 3.1x3.1mm, Pitch 0.65mm, Thermal Pad 1.88x1.98mm, IPC Low Density)
pins: 1 ~{SHUTDOWN} (in) "Shutdown terminal (active low logic)", 2 NC "No internal connection", 3 IN+ (in) "Positive differential input", 4 IN- (in) "Negative differential input", 5 VO+ (out) "Positive BTL output", 6 VDD (power) "Power supply", 7 GND (power) "High-current ground", 8 VO- (out) "Negative BTL output", 9 EP (power) "Must be soldered to a grounded pad on the PCB."

## TPA2005D1ZQYR
designator U?
1.4-W Mono Class-D Audio Amplifier, -40 to 85 degC, 15-pin BGA (ZQY15), Green (RoHS & no Sb/Br); Manufacturer: Texas Instruments; PartNumber: TPA2005D1ZQYR; Output Power(W): 1.18; PSRR(dB): -75; SubFamily: Dynamic Speaker; Supply Max(Max)(Volt): 5.5; Supply Min(Min)(Volt): 2.5; DatasheetVersion: SLOS369F; PackageVersion: 4205130/A, 05/2003; PackageReference: ZQY15; PackageDescription: 15-Ball Plastic Grid Array, Body 2.5 x 2.5 mm, Pitch 0.5 mm; Supplier 1: Digi-Key; Supplier Part Number 1: 296-18921-2-ND; Supplier 2: Digi-Key; Supplier Part Number 2: 296-18921-1-ND; Supplier 3: Newark; Supplier Part Number 3: 82H5860; Supplier 4: Mouser; Supplier Part Number 4: 595-TPA2005D1ZQYR; Eco-Plan: Green (RoHS & no Sb/Br); Speaker Amp Type: Class-D; Speaker Channels: Mono; Mounting Technology: Surface Mount; Code_JEDEC: MO-225; ComponentLink1Description: Manufacturer URL; ComponentLink1URL: http://www.ti.com/; ComponentLink2Description: Datasheet; ComponentLink2URL: http://www.ti.com/general/docs/lit/getliterature.tsp?genericPartNumber=TPA2005D1&fileType=pdf; ComponentLink3Description: Package Specification; ComponentLink3URL: http://www.ti.com/litv/pdf/mpbg361
footprint TI-ZQY15 (BGA, 15-Balls, Body 2.5x2.5mm, Pitch 0.5mm)
part A pins: A1 ~{SHUTDOWN} (in) "Shutdown terminal (active low logic)", A4 VO- (out) "Negative BTL output", B1 NC "No internal connection", C1 IN+ (in) "Positive differential input", D1 IN- (in) "Negative differential input", D4 VO+ (out) "Positive BTL output"
part B pins: A2 GND (power) "High-current ground", A3 GND (power) "High-current ground", B3 GND (power) "High-current ground", B4 VDD (power) "Power supply", C2 GND (power) "High-current ground", C3 GND (power) "High-current ground", C4 VDD (power) "Power supply", D2 GND (power) "High-current ground", D3 GND (power) "High-current ground"

## TPA2005D1ZQYRG1
designator U?
1.4-W Mono Class-D Audio Amplifier, -40 to 85 degC, 15-pin BGA (ZQY15), Green (RoHS & no Sb/Br); Manufacturer: Texas Instruments; PartNumber: TPA2005D1ZQYRG1; Output Power(W): 1.18; PSRR(dB): -75; SubFamily: Dynamic Speaker; Supply Max(Max)(Volt): 5.5; Supply Min(Min)(Volt): 2.5; DatasheetVersion: SLOS369F; PackageVersion: 4205130/A, 05/2003; PackageReference: ZQY15; PackageDescription: 15-Ball Plastic Grid Array, Body 2.5 x 2.5 mm, Pitch 0.5 mm; Supplier 1: Digi-Key; Supplier Part Number 1: TPA2005D1ZQYRG1-ND; Supplier 2: Mouser; Supplier Part Number 2: 595-TPA2005D1ZQYRG1; Eco-Plan: Green (RoHS & no Sb/Br); Speaker Amp Type: Class-D; Speaker Channels: Mono; Mounting Technology: Surface Mount; Code_JEDEC: MO-225; ComponentLink1Description: Manufacturer URL; ComponentLink1URL: http://www.ti.com/; ComponentLink2Description: Datasheet; ComponentLink2URL: http://www.ti.com/general/docs/lit/getliterature.tsp?genericPartNumber=TPA2005D1&fileType=pdf; ComponentLink3Description: Package Specification; ComponentLink3URL: http://www.ti.com/litv/pdf/mpbg361
footprint TI-ZQY15 (BGA, 15-Balls, Body 2.5x2.5mm, Pitch 0.5mm)
part A pins: A1 ~{SHUTDOWN} (in) "Shutdown terminal (active low logic)", A4 VO- (out) "Negative BTL output", B1 NC "No internal connection", C1 IN+ (in) "Positive differential input", D1 IN- (in) "Negative differential input", D4 VO+ (out) "Positive BTL output"
part B pins: A2 GND (power) "High-current ground", A3 GND (power) "High-current ground", B3 GND (power) "High-current ground", B4 VDD (power) "Power supply", C2 GND (power) "High-current ground", C3 GND (power) "High-current ground", C4 VDD (power) "Power supply", D2 GND (power) "High-current ground", D3 GND (power) "High-current ground"

## TPA2006D1DRBR
designator U?
1.45-W Mono Class-D Audio Amplifier with 1.8 V Compatible Shutdown Voltage, -40 to 85 degC, 8-pin SON (DRB8), Green (RoHS & no Sb/Br); Manufacturer: Texas Instruments; PartNumber: TPA2006D1DRBR; Output Power(W): 1.45; PSRR(dB): -75; SubFamily: Dynamic Speaker; Supply Max(Max)(Volt): 5.5; Supply Min(Min)(Volt): 2.5; DatasheetVersion: SLOS498A; PackageVersion: 4203482-2/K, 06/2012; PackageReference: DRB8-1750X1500TP; PackageDescription: 8-Pin Plastic Small Outline, Body 3 x 3 mm, Pitch 0.65 mm; Supplier 1: Digi-Key; Supplier Part Number 1: 296-20783-2-ND; Supplier 2: Digi-Key; Supplier Part Number 2: 296-20783-1-ND; Supplier 3: Digi-Key; Supplier Part Number 3: 296-20783-6-ND; Supplier 4: Newark; Supplier Part Number 4: 18M3207; Supplier 5: Mouser; Supplier Part Number 5: 595-TPA2006D1DRBR; Eco-Plan: Green (RoHS & no Sb/Br); Speaker Amp Type: Class-D; Speaker Channels: Mono; Mounting Technology: Surface Mount; ComponentLink1Description: Manufacturer URL; ComponentLink1URL: http://www.ti.com/; ComponentLink2Description: Datasheet; ComponentLink2URL: http://www.ti.com/general/docs/lit/getliterature.tsp?genericPartNumber=TPA2006D1&fileType=pdf; ComponentLink3Description: Package Specification; ComponentLink3URL: http://www.ti.com/litv/pdf/mpds118h
footprint TI-DRB8-1750X1500TP_V (SON, 8-Leads, Body 3x3mm, Pitch 0.65mm, Thermal Pad 1.50 x 3.8mm)
pins: 1 ~{SHUTDOWN} (in) "Shutdown terminal (active low logic)", 2 NC "No internal connection", 3 IN+ (in) "Positive differential input", 4 IN- (in) "Negative differential input", 5 VO+ (out) "Positive BTL output", 6 VDD (power) "Power supply", 7 GND (power) "High-current ground", 8 VO- (out) "Negative BTL output", 9 EP (power) "Must be soldered to a grounded pad on the PCB."

## TPA2006D1DRBRG4
designator U?
1.45-W Mono Class-D Audio Amplifier with 1.8 V Compatible Shutdown Voltage, -40 to 85 degC, 8-pin SON (DRB8), Green (RoHS & no Sb/Br); Manufacturer: Texas Instruments; PartNumber: TPA2006D1DRBRG4; Output Power(W): 1.45; PSRR(dB): -75; SubFamily: Dynamic Speaker; Supply Max(Max)(Volt): 5.5; Supply Min(Min)(Volt): 2.5; DatasheetVersion: SLOS498A; PackageVersion: 4203482-2/K, 06/2012; PackageReference: DRB8-1750X1500TP; PackageDescription: 8-Pin Plastic Small Outline, Body 3 x 3 mm, Pitch 0.65 mm; Supplier 1: Digi-Key; Supplier Part Number 1: TPA2006D1DRBRG4-ND; Supplier 2: Mouser; Supplier Part Number 2: 595-TPA2006D1DRBRG4; Eco-Plan: Green (RoHS & no Sb/Br); Speaker Amp Type: Class-D; Speaker Channels: Mono; Mounting Technology: Surface Mount; ComponentLink1Description: Manufacturer URL; ComponentLink1URL: http://www.ti.com/; ComponentLink2Description: Datasheet; ComponentLink2URL: http://www.ti.com/general/docs/lit/getliterature.tsp?genericPartNumber=TPA2006D1&fileType=pdf; ComponentLink3Description: Package Specification; ComponentLink3URL: http://www.ti.com/litv/pdf/mpds118h
footprint TI-DRB8-1750X1500TP_V (SON, 8-Leads, Body 3x3mm, Pitch 0.65mm, Thermal Pad 1.50 x 3.8mm)
pins: 1 ~{SHUTDOWN} (in) "Shutdown terminal (active low logic)", 2 NC "No internal connection", 3 IN+ (in) "Positive differential input", 4 IN- (in) "Negative differential input", 5 VO+ (out) "Positive BTL output", 6 VDD (power) "Power supply", 7 GND (power) "High-current ground", 8 VO- (out) "Negative BTL output", 9 EP (power) "Must be soldered to a grounded pad on the PCB."

## TPA2006D1DRBT
designator U?
1.45-W Mono Class-D Audio Amplifier with 1.8 V Compatible Shutdown Voltage, -40 to 85 degC, 8-pin SON (DRB8), Green (RoHS & no Sb/Br); Manufacturer: Texas Instruments; PartNumber: TPA2006D1DRBT; Output Power(W): 1.45; PSRR(dB): -75; SubFamily: Dynamic Speaker; Supply Max(Max)(Volt): 5.5; Supply Min(Min)(Volt): 2.5; DatasheetVersion: SLOS498A; PackageVersion: 4203482-2/K, 06/2012; PackageReference: DRB8-1750X1500TP; PackageDescription: 8-Pin Plastic Small Outline, Body 3 x 3 mm, Pitch 0.65 mm; Supplier 1: Digi-Key; Supplier Part Number 1: 296-26877-2-ND; Supplier 2: Digi-Key; Supplier Part Number 2: 296-26877-1-ND; Supplier 3: Digi-Key; Supplier Part Number 3: 296-26877-6-ND; Supplier 4: Farnell; Supplier Part Number 4: 1903404; Supplier 5: Newark; Supplier Part Number 5: 55T3956; Supplier 6: Newark; Supplier Part Number 6: 18M3209; Supplier 7: Mouser; Supplier Part Number 7: 595-TPA2006D1DRBT; Eco-Plan: Green (RoHS & no Sb/Br); Speaker Amp Type: Class-D; Speaker Channels: Mono; Mounting Technology: Surface Mount; ComponentLink1Description: Manufacturer URL; ComponentLink1URL: http://www.ti.com/; ComponentLink2Description: Datasheet; ComponentLink2URL: http://www.ti.com/general/docs/lit/getliterature.tsp?genericPartNumber=TPA2006D1&fileType=pdf; ComponentLink3Description: Package Specification; ComponentLink3URL: http://www.ti.com/litv/pdf/mpds118h
footprint TI-DRB8-1750X1500TP_V (SON, 8-Leads, Body 3x3mm, Pitch 0.65mm, Thermal Pad 1.50 x 3.8mm)
pins: 1 ~{SHUTDOWN} (in) "Shutdown terminal (active low logic)", 2 NC "No internal connection", 3 IN+ (in) "Positive differential input", 4 IN- (in) "Negative differential input", 5 VO+ (out) "Positive BTL output", 6 VDD (power) "Power supply", 7 GND (power) "High-current ground", 8 VO- (out) "Negative BTL output", 9 EP (power) "Must be soldered to a grounded pad on the PCB."

## TPA2006D1DRBTG4
designator U?
1.45-W Mono Class-D Audio Amplifier with 1.8 V Compatible Shutdown Voltage, -40 to 85 degC, 8-pin SON (DRB8), Green (RoHS & no Sb/Br); Manufacturer: Texas Instruments; PartNumber: TPA2006D1DRBTG4; Output Power(W): 1.45; PSRR(dB): -75; SubFamily: Dynamic Speaker; Supply Max(Max)(Volt): 5.5; Supply Min(Min)(Volt): 2.5; DatasheetVersion: SLOS498A; PackageVersion: 4203482-2/K, 06/2012; PackageReference: DRB8-1750X1500TP; PackageDescription: 8-Pin Plastic Small Outline, Body 3 x 3 mm, Pitch 0.65 mm; Supplier 1: Digi-Key; Supplier Part Number 1: TPA2006D1DRBTG4-ND; Supplier 2: Newark; Supplier Part Number 2: 18M3210; Supplier 3: Mouser; Supplier Part Number 3: 595-TPA2006D1DRBTG4; Eco-Plan: Green (RoHS & no Sb/Br); Speaker Amp Type: Class-D; Speaker Channels: Mono; Mounting Technology: Surface Mount; ComponentLink1Description: Manufacturer URL; ComponentLink1URL: http://www.ti.com/; ComponentLink2Description: Datasheet; ComponentLink2URL: http://www.ti.com/general/docs/lit/getliterature.tsp?genericPartNumber=TPA2006D1&fileType=pdf; ComponentLink3Description: Package Specification; ComponentLink3URL: http://www.ti.com/litv/pdf/mpds118h
footprint TI-DRB8-1750X1500TP_V (SON, 8-Leads, Body 3x3mm, Pitch 0.65mm, Thermal Pad 1.50 x 3.8mm)
pins: 1 ~{SHUTDOWN} (in) "Shutdown terminal (active low logic)", 2 NC "No internal connection", 3 IN+ (in) "Positive differential input", 4 IN- (in) "Negative differential input", 5 VO+ (out) "Positive BTL output", 6 VDD (power) "Power supply", 7 GND (power) "High-current ground", 8 VO- (out) "Negative BTL output", 9 EP (power) "Must be soldered to a grounded pad on the PCB."

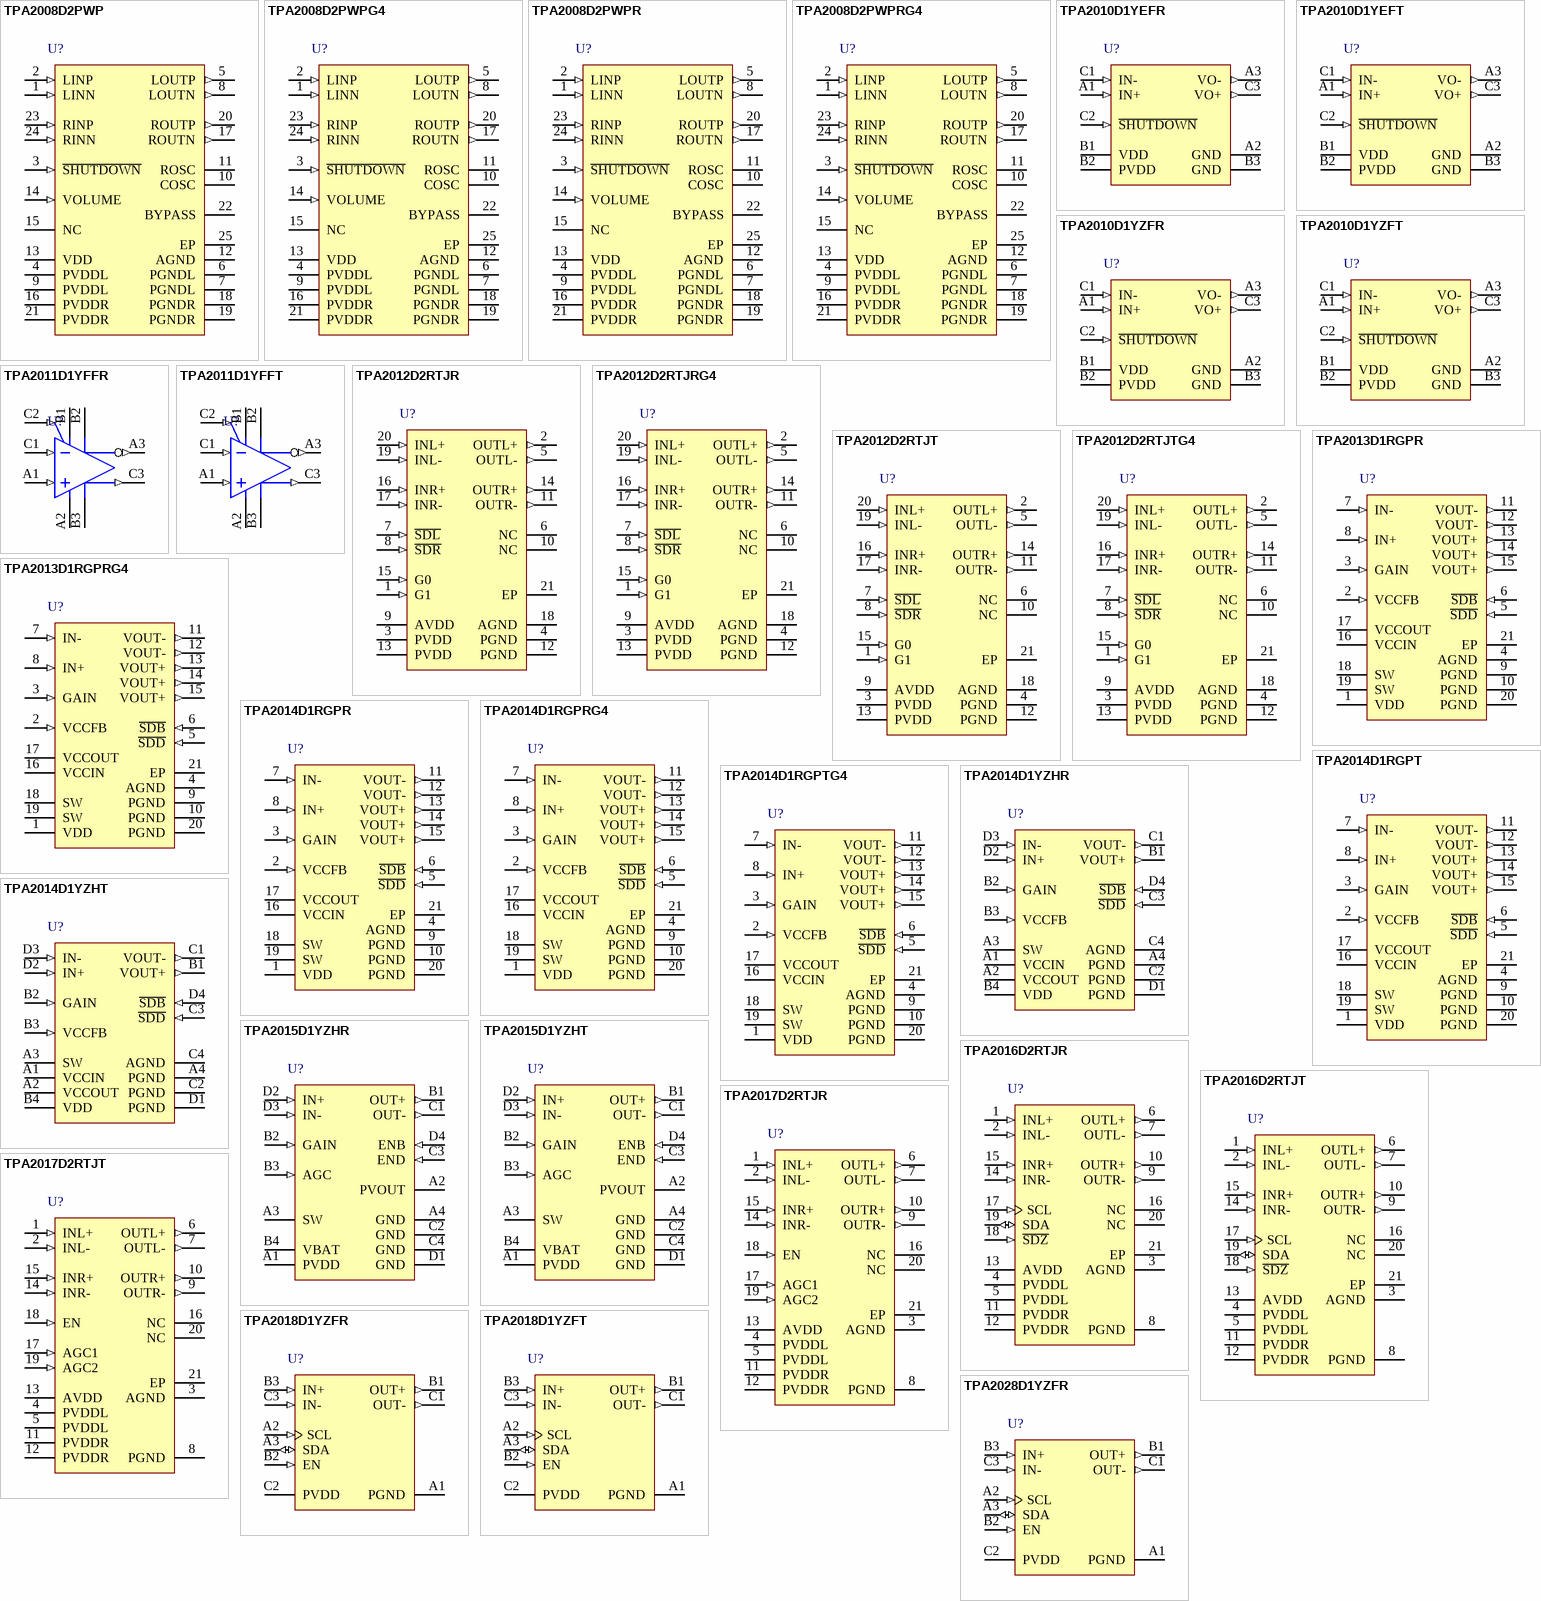
[diagram p28: symbols TPA2008D2PWP to TPA2028D1YZFR]

## TPA2008D2PWP
designator U?
3-W Stereo Class-D Audio Amplifier with Volume Control, -40 to 85 degC, 24-pin SOP (PWP24), Green (RoHS & no Sb/Br); Manufacturer: Texas Instruments; PartNumber: TPA2008D2PWP; DC Volume Control: TRUE; Output Power(W): 3; PSRR(dB): -70; Special Features: DC Volume Control; SubFamily: Dynamic Speaker; Supply Max(Max)(Volt): 5.5; Supply Min(Min)(Volt): 4.5; DatasheetVersion: SLOS413C; PackageVersion: 4073225-5/I, 05/2011; PackageReference: PWP24-4820X1950TP; PackageDescription: 24-Pin Plastic Small Outline, Body 4.4 x 7.8 mm, Pitch 0.65 mm; Supplier 1: Digi-Key; Supplier Part Number 1: 296-15339-5-ND; Supplier 2: Newark; Supplier Part Number 2: 82H5862; Supplier 3: Mouser; Supplier Part Number 3: 595-TPA2008D2PWP; Eco-Plan: Green (RoHS & no Sb/Br); Speaker Amp Type: Class-D; Speaker Channels: Stereo; Mounting Technology: Surface Mount; Code_JEDEC: MO-153; ComponentLink1Description: Manufacturer URL; ComponentLink1URL: http://www.ti.com/; ComponentLink2Description: Datasheet; ComponentLink2URL: http://www.ti.com/general/docs/lit/getliterature.tsp?genericPartNumber=TPA2008D2&fileType=pdf; ComponentLink3Description: Package Specification; ComponentLink3URL: http://www.ti.com/litv/pdf/mpds372
footprint TI-PWP24-4820X1950TP_N (SOP, 24-Leads, Body 7.8x4.4mm, Pitch 0.65mm, Thermal Pad 4.87x2.4mm, IPC Medium Density)
footprint TI-PWP24-4820X1950TP_L (SOP, 24-Leads, Body 7.8x4.4mm, Pitch 0.65mm, Thermal Pad 4.87x2.4mm, IPC High Density)
footprint TI-PWP24-4820X1950TP_M (SOP, 24-Leads, Body 7.8x4.4mm, Pitch 0.65mm, Thermal Pad 4.87x2.4mm, IPC Low Density)
pins: 1 LINN (in) "Negative differential audio input for left channel", 2 LINP (in) "Positive differential audio input for left channel", 3 ~{SHUTDOWN} (in) "Places the amplifer in shutdown mode if a TTL logic low is placed on this terminal; normal operation if a TTL logic high is placed on this terminal.", 4 PVDDL (power) "Power supply for left channel H-bridge", 5 LOUTP (out) "Positive audio output for left channel", 6 PGNDL (power) "Power ground for left channel H-bridge", 7 PGNDL (power) "Power ground for left channel H-bridge", 8 LOUTN (out) "Negative audio output for left channel", 9 PVDDL (power) "Power supply for left channel H-bridge", 10 COSC "A capacitor connected to this terminal sets the oscillation frequency in conjunction with ROSC. For proper operation, connect a 220-pF capacitor from COSC to ground.", 11 ROSC "A resistor connected to the ROSC terminal sets the oscillation frequency in conjunction with COSC. For proper operation, connect a 120-kohm resistor from ROSC to ground.", 12 AGND (power) "Analog ground", 13 VDD (power) "Analog power supply", 14 VOLUME (in) "DC volume control for setting the gain on the internal amplifiers. The dc voltage range is 0 to VDD.", 15 NC "No connection", 16 PVDDR (power) "Power supply for right channel H-bridge", 17 ROUTN (out) "Negative output for right channel", 18 PGNDR (power) "Power ground for right channel H-bridge", 19 PGNDR (power) "Power ground for right channel H-bridge", 20 ROUTP (out) "Positive output for right channel", 21 PVDDR (power) "Power supply for right channel H-bridge", 22 BYPASS "Tap to voltage divider for internal mid-supply bias generator used for internal analog reference.", 23 RINP (in) "Negative differential audio input for right channel", 24 RINN (in) "Positive differential audio input for right channel", 25 EP (power) "Connect to analog ground and the power grounds must be soldered down in all applications to properly secure device on the PCB."